# EAGLE library part STM32-M-100 (library pel_stm32)
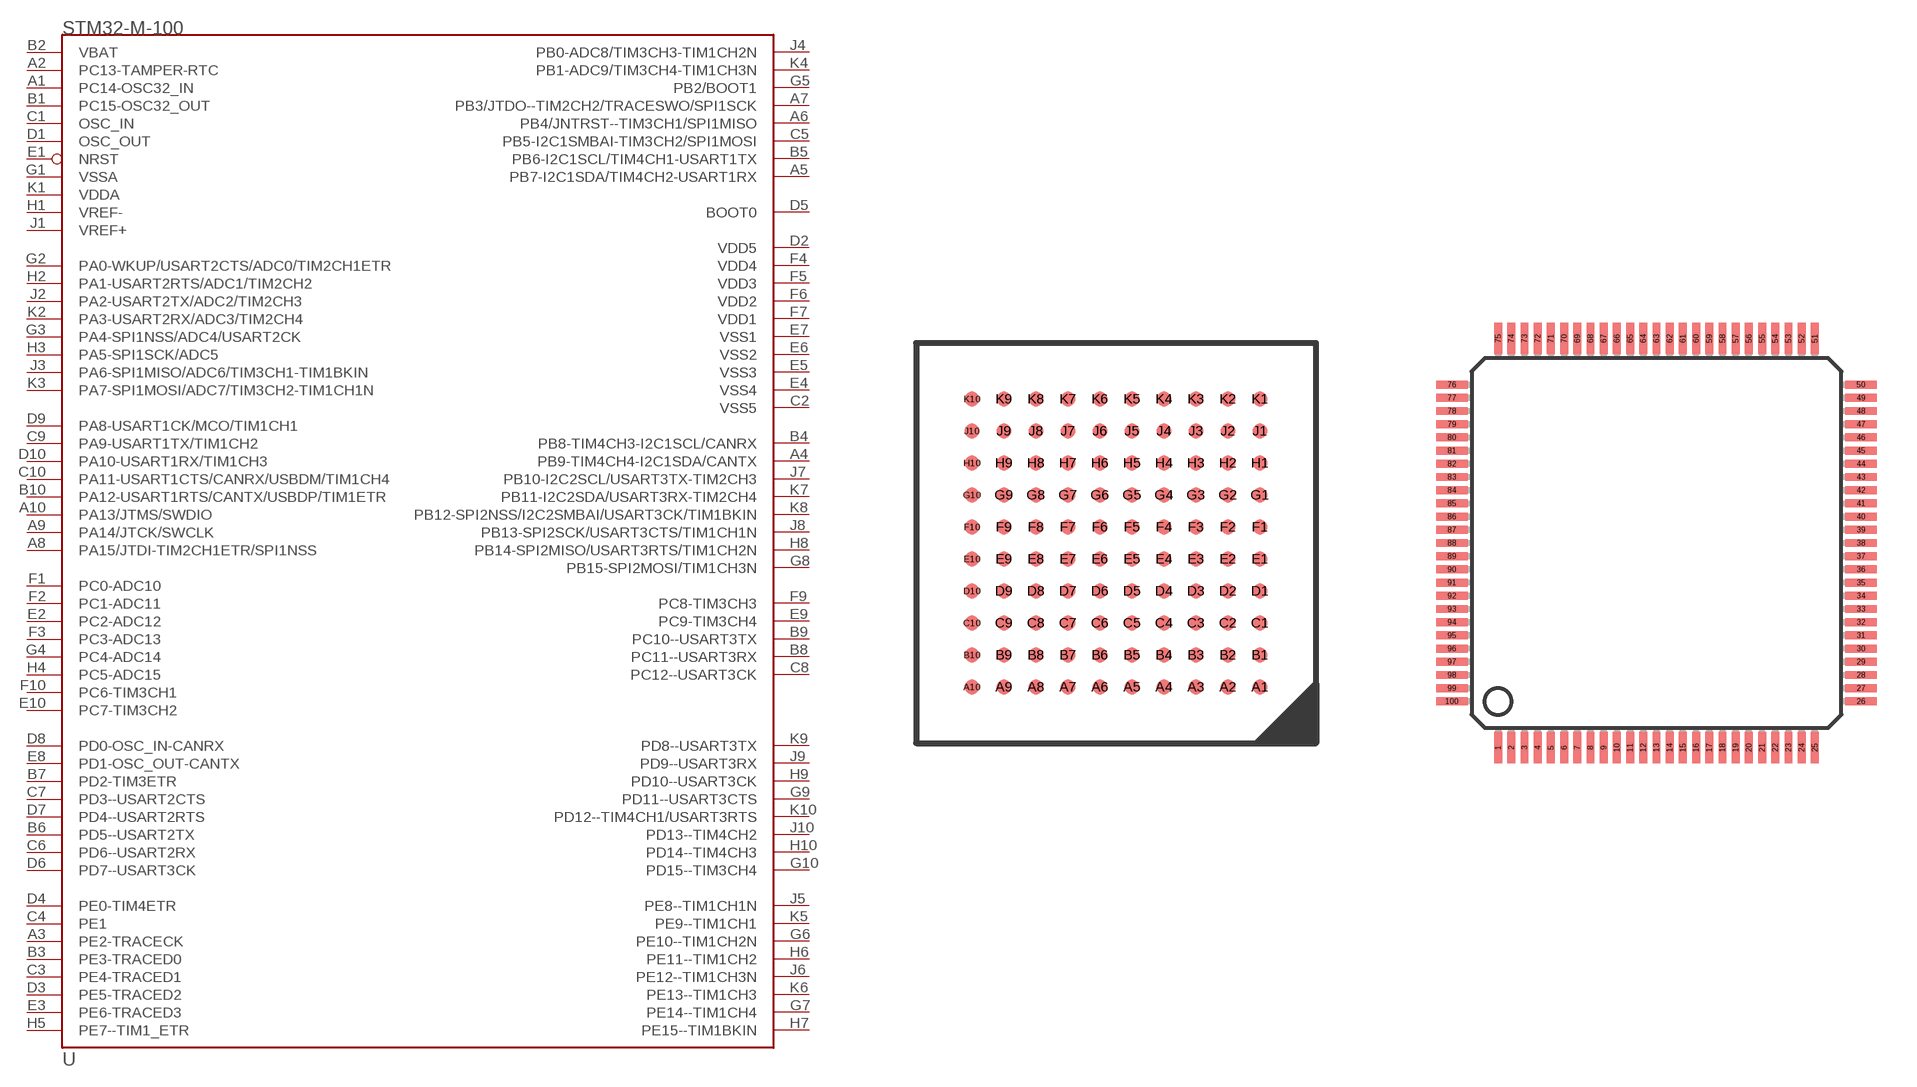
[diagram p4: symbol with the pads of LFBGA100; footprints LFBGA100, LQFP100]

Designator prefix U

## STM32-M-100-LFBGA  [LFBGA100]
A1  PC14-OSC32_IN
A2  PC13-TAMPER-RTC
A3  PE2-TRACECK
A4  PB9-TIM4CH4-I2C1SDA/CANTX
A5  PB7-I2C1SDA/TIM4CH2-USART1RX
A6  PB4/JNTRST--TIM3CH1/SPI1MISO
A7  PB3/JTDO--TIM2CH2/TRACESWO/SPI1SCK
A8  PA15/JTDI-TIM2CH1ETR/SPI1NSS
A9  PA14/JTCK/SWCLK
A10  PA13/JTMS/SWDIO
B1  PC15-OSC32_OUT
B2  VBAT  sup
B3  PE3-TRACED0
B4  PB8-TIM4CH3-I2C1SCL/CANRX
B5  PB6-I2C1SCL/TIM4CH1-USART1TX
B6  PD5--USART2TX
B7  PD2-TIM3ETR
B8  PC11--USART3RX
B9  PC10--USART3TX
B10  PA12-USART1RTS/CANTX/USBDP/TIM1ETR
C1  OSC_IN  in
C2  VSS5
C3  PE4-TRACED1
C4  PE1
C5  PB5-I2C1SMBAI-TIM3CH2/SPI1MOSI
C6  PD6--USART2RX
C7  PD3--USART2CTS
C8  PC12--USART3CK
C9  PA9-USART1TX/TIM1CH2
C10  PA11-USART1CTS/CANRX/USBDM/TIM1CH4
D1  OSC_OUT  out
D2  VDD5
D3  PE5-TRACED2
D4  PE0-TIM4ETR
D5  BOOT0  in
D6  PD7--USART3CK
D7  PD4--USART2RTS
D8  PD0-OSC_IN-CANRX
D9  PA8-USART1CK/MCO/TIM1CH1
D10  PA10-USART1RX/TIM1CH3
E1  NRST
E2  PC2-ADC12
E3  PE6-TRACED3
E4  VSS4
E5  VSS3  sup
E6  VSS2  sup
E7  VSS1  sup
E8  PD1-OSC_OUT-CANTX
E9  PC9-TIM3CH4
E10  PC7-TIM3CH2
F1  PC0-ADC10
F2  PC1-ADC11
F3  PC3-ADC13
F4  VDD4
F5  VDD3  sup
F6  VDD2  sup
F7  VDD1  sup
F9  PC8-TIM3CH3
F10  PC6-TIM3CH1
G1  VSSA  sup
G2  PA0-WKUP/USART2CTS/ADC0/TIM2CH1ETR
G3  PA4-SPI1NSS/ADC4/USART2CK
G4  PC4-ADC14
G5  PB2/BOOT1
G6  PE10--TIM1CH2N
G7  PE14--TIM1CH4
G8  PB15-SPI2MOSI/TIM1CH3N
G9  PD11--USART3CTS
G10  PD15--TIM3CH4
H1  VREF-
H2  PA1-USART2RTS/ADC1/TIM2CH2
H3  PA5-SPI1SCK/ADC5
H4  PC5-ADC15
H5  PE7--TIM1_ETR
H6  PE11--TIM1CH2
H7  PE15--TIM1BKIN
H8  PB14-SPI2MISO/USART3RTS/TIM1CH2N
H9  PD10--USART3CK
H10  PD14--TIM4CH3
J1  VREF+
J2  PA2-USART2TX/ADC2/TIM2CH3
J3  PA6-SPI1MISO/ADC6/TIM3CH1-TIM1BKIN
J4  PB0-ADC8/TIM3CH3-TIM1CH2N
J5  PE8--TIM1CH1N
J6  PE12--TIM1CH3N
J7  PB10-I2C2SCL/USART3TX-TIM2CH3
J8  PB13-SPI2SCK/USART3CTS/TIM1CH1N
J9  PD9--USART3RX
J10  PD13--TIM4CH2
K1  VDDA  sup
K2  PA3-USART2RX/ADC3/TIM2CH4
K3  PA7-SPI1MOSI/ADC7/TIM3CH2-TIM1CH1N
K4  PB1-ADC9/TIM3CH4-TIM1CH3N
K5  PE9--TIM1CH1
K6  PE13--TIM1CH3
K7  PB11-I2C2SDA/USART3RX-TIM2CH4
K8  PB12-SPI2NSS/I2C2SMBAI/USART3CK/TIM1BKIN
K9  PD8--USART3TX
K10  PD12--TIM4CH1/USART3RTS

## STM32-M-100-LQFP  [LQFP100]
1  PE2-TRACECK
2  PE3-TRACED0
3  PE4-TRACED1
4  PE5-TRACED2
5  PE6-TRACED3
6  VBAT  sup
7  PC13-TAMPER-RTC
8  PC14-OSC32_IN
9  PC15-OSC32_OUT
10  VSS5
11  VDD5
12  OSC_IN  in
13  OSC_OUT  out
14  NRST
15  PC0-ADC10
16  PC1-ADC11
17  PC2-ADC12
18  PC3-ADC13
19  VSSA  sup
20  VREF-
21  VREF+
22  VDDA  sup
23  PA0-WKUP/USART2CTS/ADC0/TIM2CH1ETR
24  PA1-USART2RTS/ADC1/TIM2CH2
25  PA2-USART2TX/ADC2/TIM2CH3
26  PA3-USART2RX/ADC3/TIM2CH4
27  VSS4
28  VDD4
29  PA4-SPI1NSS/ADC4/USART2CK
30  PA5-SPI1SCK/ADC5
31  PA6-SPI1MISO/ADC6/TIM3CH1-TIM1BKIN
32  PA7-SPI1MOSI/ADC7/TIM3CH2-TIM1CH1N
33  PC4-ADC14
34  PC5-ADC15
35  PB0-ADC8/TIM3CH3-TIM1CH2N
36  PB1-ADC9/TIM3CH4-TIM1CH3N
37  PB2/BOOT1
38  PE7--TIM1_ETR
39  PE8--TIM1CH1N
40  PE9--TIM1CH1
41  PE10--TIM1CH2N
42  PE11--TIM1CH2
43  PE12--TIM1CH3N
44  PE13--TIM1CH3
45  PE14--TIM1CH4
46  PE15--TIM1BKIN
47  PB10-I2C2SCL/USART3TX-TIM2CH3
48  PB11-I2C2SDA/USART3RX-TIM2CH4
49  VSS1  sup
50  VDD1  sup
51  PB12-SPI2NSS/I2C2SMBAI/USART3CK/TIM1BKIN
52  PB13-SPI2SCK/USART3CTS/TIM1CH1N
53  PB14-SPI2MISO/USART3RTS/TIM1CH2N
54  PB15-SPI2MOSI/TIM1CH3N
55  PD8--USART3TX
56  PD9--USART3RX
57  PD10--USART3CK
58  PD11--USART3CTS
59  PD12--TIM4CH1/USART3RTS
60  PD13--TIM4CH2
61  PD14--TIM4CH3
62  PD15--TIM3CH4
63  PC6-TIM3CH1
64  PC7-TIM3CH2
65  PC8-TIM3CH3
66  PC9-TIM3CH4
67  PA8-USART1CK/MCO/TIM1CH1
68  PA9-USART1TX/TIM1CH2
69  PA10-USART1RX/TIM1CH3
70  PA11-USART1CTS/CANRX/USBDM/TIM1CH4
71  PA12-USART1RTS/CANTX/USBDP/TIM1ETR
72  PA13/JTMS/SWDIO
74  VSS2  sup
75  VDD2  sup
76  PA14/JTCK/SWCLK
77  PA15/JTDI-TIM2CH1ETR/SPI1NSS
78  PC10--USART3TX
79  PC11--USART3RX
80  PC12--USART3CK
81  PD0-OSC_IN-CANRX
82  PD1-OSC_OUT-CANTX
83  PD2-TIM3ETR
84  PD3--USART2CTS
85  PD4--USART2RTS
86  PD5--USART2TX
87  PD6--USART2RX
88  PD7--USART3CK
89  PB3/JTDO--TIM2CH2/TRACESWO/SPI1SCK
90  PB4/JNTRST--TIM3CH1/SPI1MISO
91  PB5-I2C1SMBAI-TIM3CH2/SPI1MOSI
92  PB6-I2C1SCL/TIM4CH1-USART1TX
93  PB7-I2C1SDA/TIM4CH2-USART1RX
94  BOOT0  in
95  PB8-TIM4CH3-I2C1SCL/CANRX
96  PB9-TIM4CH4-I2C1SDA/CANTX
97  PE0-TIM4ETR
98  PE1
99  VSS3  sup
100  VDD3  sup

## Footprint LFBGA100 (pad centres in mm)
smd 0.37 x 0.37: A1 3.6,-3.6; A2 2.8,-3.6; A3 2,-3.6; A4 1.2,-3.6; A5 0.4,-3.6; A6 -0.4,-3.6; A7 -1.2,-3.6; A8 -2,-3.6; A9 -2.8,-3.6; A10 -3.6,-3.6; B1 3.6,-2.8; B2 2.8,-2.8; B3 2,-2.8; B4 1.2,-2.8; B5 0.4,-2.8; B6 -0.4,-2.8; B7 -1.2,-2.8; B8 -2,-2.8; B9 -2.8,-2.8; B10 -3.6,-2.8; C1 3.6,-2; C2 2.8,-2; C3 2,-2; C4 1.2,-2; C5 0.4,-2; C6 -0.4,-2; C7 -1.2,-2; C8 -2,-2; C9 -2.8,-2; C10 -3.6,-2; D1 3.6,-1.2; D2 2.8,-1.2; D3 2,-1.2; D4 1.2,-1.2; D5 0.4,-1.2; D6 -0.4,-1.2; D7 -1.2,-1.2; D8 -2,-1.2; D9 -2.8,-1.2; D10 -3.6,-1.2; E1 3.6,-0.4; E2 2.8,-0.4; E3 2,-0.4; E4 1.2,-0.4; E5 0.4,-0.4; E6 -0.4,-0.4; E7 -1.2,-0.4; E8 -2,-0.4; E9 -2.8,-0.4; E10 -3.6,-0.4; F1 3.6,0.4; F2 2.8,0.4; F3 2,0.4; F4 1.2,0.4; F5 0.4,0.4; F6 -0.4,0.4; F7 -1.2,0.4; F8 -2,0.4; F9 -2.8,0.4; F10 -3.6,0.4; G1 3.6,1.2; G2 2.8,1.2; G3 2,1.2; G4 1.2,1.2; G5 0.4,1.2; G6 -0.4,1.2; G7 -1.2,1.2; G8 -2,1.2; G9 -2.8,1.2; G10 -3.6,1.2; H1 3.6,2; H2 2.8,2; H3 2,2; H4 1.2,2; H5 0.4,2; H6 -0.4,2; H7 -1.2,2; H8 -2,2; H9 -2.8,2; H10 -3.6,2; J1 3.6,2.8; J2 2.8,2.8; J3 2,2.8; J4 1.2,2.8; J5 0.4,2.8; J6 -0.4,2.8; J7 -1.2,2.8; J8 -2,2.8; J9 -2.8,2.8; J10 -3.6,2.8; K1 3.6,3.6; K2 2.8,3.6; K3 2,3.6; K4 1.2,3.6; K5 0.4,3.6; K6 -0.4,3.6; K7 -1.2,3.6; K8 -2,3.6; K9 -2.8,3.6; K10 -3.6,3.6

## Footprint LQFP100 (pad centres in mm)
smd 0.3 x 1.2: 1 -6,-7.75; 2 -5.5,-7.75; 3 -5,-7.75; 4 -4.5,-7.75; 5 -4,-7.75; 6 -3.5,-7.75; 7 -3,-7.75; 8 -2.5,-7.75; 9 -2,-7.75; 10 -1.5,-7.75; 11 -1,-7.75; 12 -0.5,-7.75; 13 0,-7.75; 14 0.5,-7.75; 15 1,-7.75; 16 1.5,-7.75; 17 2,-7.75; 18 2.5,-7.75; 19 3,-7.75; 20 3.5,-7.75; 21 4,-7.75; 22 4.5,-7.75; 23 5,-7.75; 24 5.5,-7.75; 25 6,-7.75; 51 6,7.75; 52 5.5,7.75; 53 5,7.75; 54 4.5,7.75; 55 4,7.75; 56 3.5,7.75; 57 3,7.75; 58 2.5,7.75; 59 2,7.75; 60 1.5,7.75; 61 1,7.75; 62 0.5,7.75; 63 0,7.75; 64 -0.5,7.75; 65 -1,7.75; 66 -1.5,7.75; 67 -2,7.75; 68 -2.5,7.75; 69 -3,7.75; 70 -3.5,7.75; 71 -4,7.75; 72 -4.5,7.75; 73 -5,7.75; 74 -5.5,7.75; 75 -6,7.75
smd 1.2 x 0.3: 26 7.75,-6; 27 7.75,-5.5; 28 7.75,-5; 29 7.75,-4.5; 30 7.75,-4; 31 7.75,-3.5; 32 7.75,-3; 33 7.75,-2.5; 34 7.75,-2; 35 7.75,-1.5; 36 7.75,-1; 37 7.75,-0.5; 38 7.75,0; 39 7.75,0.5; 40 7.75,1; 41 7.75,1.5; 42 7.75,2; 43 7.75,2.5; 44 7.75,3; 45 7.75,3.5; 46 7.75,4; 47 7.75,4.5; 48 7.75,5; 49 7.75,5.5; 50 7.75,6; 76 -7.75,6; 77 -7.75,5.5; 78 -7.75,5; 79 -7.75,4.5; 80 -7.75,4; 81 -7.75,3.5; 82 -7.75,3; 83 -7.75,2.5; 84 -7.75,2; 85 -7.75,1.5; 86 -7.75,1; 87 -7.75,0.5; 88 -7.75,0; 89 -7.75,-0.5; 90 -7.75,-1; 91 -7.75,-1.5; 92 -7.75,-2; 93 -7.75,-2.5; 94 -7.75,-3; 95 -7.75,-3.5; 96 -7.75,-4; 97 -7.75,-4.5; 98 -7.75,-5; 99 -7.75,-5.5; 100 -7.75,-6